# EAGLE library part L6387E (library Bits_library_eagle)
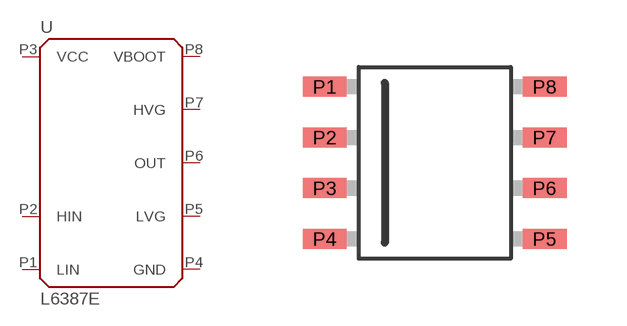
[diagram p5: symbol with the pads of SO-8; footprint SO-8]

Designator prefix -

## L6387E  [SO-8]
P1  LIN  in
P2  HIN  in
P3  VCC  pwr
P4  GND  pwr
P5  LVG  out
P6  OUT  pwr
P7  HVG  out
P8  VBOOT  pwr

## Footprint SO-8 (pad centres in mm)
smd 1.1 x 0.5: P1 -2.75,1.905; P2 -2.75,0.635; P3 -2.75,-0.635; P4 -2.75,-1.905; P5 2.75,-1.905; P6 2.75,-0.635; P7 2.75,0.635; P8 2.75,1.905